# Altium footprint library FQFP (0.4mm Pitch, Square) - Corner Index.PcbLib: 27 footprints (part 3 of 3)
Each footprint in its own frame and in the unit in brackets; x right, y up, seen from the top. Pads: shape width x height; smd on the part's side, far side on the other; paste and mask are expansions set on the pad; w line width, h text height; cw(c..) or ccw(c..) is an arc to the next point about the centre after c.
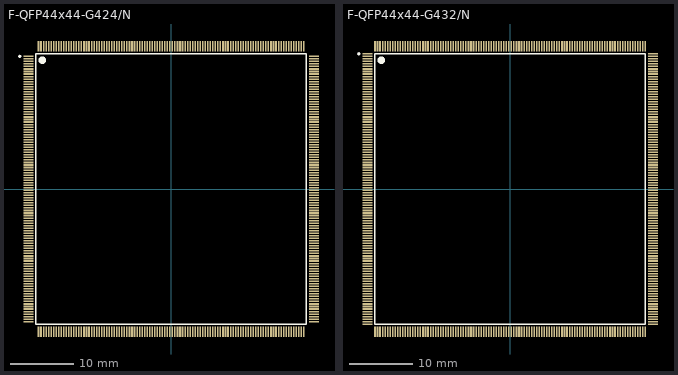
[diagram p2: the footprints below, top view; thin cyan lines are the x and y axes]

## F-QFP44x44-G424/N [mm] "QFP; 424 Leads; Body 44 x 44 mm; Pitch 0.4 mm"
height 4.2
pads (424):
  rect 1.6x0.25 smd: 1(-22.6,21) 2(-22.6,20.6) 3(-22.6,20.2) 4(-22.6,19.8) 5(-22.6,19.4) 6(-22.6,19) 7(-22.6,18.6) 8(-22.6,18.2) 9(-22.6,17.8) 10(-22.6,17.4) 11(-22.6,17) 12(-22.6,16.6) 13(-22.6,16.2) 14(-22.6,15.8) 15(-22.6,15.4) 16(-22.6,15) 17(-22.6,14.6) 18(-22.6,14.2) 19(-22.6,13.8) 20(-22.6,13.4) 21(-22.6,13) 22(-22.6,12.6) 23(-22.6,12.2) 24(-22.6,11.8) 25(-22.6,11.4) 26(-22.6,11) 27(-22.6,10.6) 28(-22.6,10.2) 29(-22.6,9.8) 30(-22.6,9.4) 31(-22.6,9) 32(-22.6,8.6) 33(-22.6,8.2) 34(-22.6,7.8) 35(-22.6,7.4) 36(-22.6,7) 37(-22.6,6.6) 38(-22.6,6.2) 39(-22.6,5.8) 40(-22.6,5.4) 41(-22.6,5) 42(-22.6,4.6) 43(-22.6,4.2) 44(-22.6,3.8) 45(-22.6,3.4) 46(-22.6,3) 47(-22.6,2.6) 48(-22.6,2.2) 49(-22.6,1.8) 50(-22.6,1.4) 51(-22.6,1) 52(-22.6,0.6) 53(-22.6,0.2) 54(-22.6,-0.2) 55(-22.6,-0.6) 56(-22.6,-1) 57(-22.6,-1.4) 58(-22.6,-1.8) 59(-22.6,-2.2) 60(-22.6,-2.6) 61(-22.6,-3) 62(-22.6,-3.4) 63(-22.6,-3.8) 64(-22.6,-4.2) 65(-22.6,-4.6) 66(-22.6,-5) 67(-22.6,-5.4) 68(-22.6,-5.8) 69(-22.6,-6.2) 70(-22.6,-6.6) 71(-22.6,-7) 72(-22.6,-7.4) 73(-22.6,-7.8) 74(-22.6,-8.2) 75(-22.6,-8.6) 76(-22.6,-9) 77(-22.6,-9.4) 78(-22.6,-9.8) 79(-22.6,-10.2) 80(-22.6,-10.6) 81(-22.6,-11) 82(-22.6,-11.4) 83(-22.6,-11.8) 84(-22.6,-12.2) 85(-22.6,-12.6) 86(-22.6,-13) 87(-22.6,-13.4) 88(-22.6,-13.8) 89(-22.6,-14.2) 90(-22.6,-14.6) 91(-22.6,-15) 92(-22.6,-15.4) 93(-22.6,-15.8) 94(-22.6,-16.2) 95(-22.6,-16.6) 96(-22.6,-17) 97(-22.6,-17.4) 98(-22.6,-17.8) 99(-22.6,-18.2) 100(-22.6,-18.6) 101(-22.6,-19) 102(-22.6,-19.4) 103(-22.6,-19.8) 104(-22.6,-20.2) 105(-22.6,-20.6) 106(-22.6,-21) 213(22.6,-21) 214(22.6,-20.6) 215(22.6,-20.2) 216(22.6,-19.8) 217(22.6,-19.4) 218(22.6,-19) 219(22.6,-18.6) 220(22.6,-18.2) 221(22.6,-17.8) 222(22.6,-17.4) 223(22.6,-17) 224(22.6,-16.6) 225(22.6,-16.2) 226(22.6,-15.8) 227(22.6,-15.4) 228(22.6,-15) 229(22.6,-14.6) 230(22.6,-14.2) 231(22.6,-13.8) 232(22.6,-13.4) 233(22.6,-13) 234(22.6,-12.6) 235(22.6,-12.2) 236(22.6,-11.8) 237(22.6,-11.4) 238(22.6,-11) 239(22.6,-10.6) 240(22.6,-10.2) 241(22.6,-9.8) 242(22.6,-9.4) 243(22.6,-9) 244(22.6,-8.6) 245(22.6,-8.2) 246(22.6,-7.8) 247(22.6,-7.4) 248(22.6,-7) 249(22.6,-6.6) 250(22.6,-6.2) 251(22.6,-5.8) 252(22.6,-5.4) 253(22.6,-5) 254(22.6,-4.6) 255(22.6,-4.2) 256(22.6,-3.8) 257(22.6,-3.4) 258(22.6,-3) 259(22.6,-2.6) 260(22.6,-2.2) 261(22.6,-1.8) 262(22.6,-1.4) 263(22.6,-1) 264(22.6,-0.6) 265(22.6,-0.2) 266(22.6,0.2) 267(22.6,0.6) 268(22.6,1) 269(22.6,1.4) 270(22.6,1.8) 271(22.6,2.2) 272(22.6,2.6) 273(22.6,3) 274(22.6,3.4) 275(22.6,3.8) 276(22.6,4.2) 277(22.6,4.6) 278(22.6,5) 279(22.6,5.4) 280(22.6,5.8) 281(22.6,6.2) 282(22.6,6.6) 283(22.6,7) 284(22.6,7.4) 285(22.6,7.8) 286(22.6,8.2) 287(22.6,8.6) 288(22.6,9) 289(22.6,9.4) 290(22.6,9.8) 291(22.6,10.2) 292(22.6,10.6) 293(22.6,11) 294(22.6,11.4) 295(22.6,11.8) 296(22.6,12.2) 297(22.6,12.6) 298(22.6,13) 299(22.6,13.4) 300(22.6,13.8) 301(22.6,14.2) 302(22.6,14.6) 303(22.6,15) 304(22.6,15.4) 305(22.6,15.8) 306(22.6,16.2) 307(22.6,16.6) 308(22.6,17) 309(22.6,17.4) 310(22.6,17.8) 311(22.6,18.2) 312(22.6,18.6) 313(22.6,19) 314(22.6,19.4) 315(22.6,19.8) 316(22.6,20.2) 317(22.6,20.6) 318(22.6,21)
  rect 0.25x1.6 smd: 107(-21,-22.6) 108(-20.6,-22.6) 109(-20.2,-22.6) 110(-19.8,-22.6) 111(-19.4,-22.6) 112(-19,-22.6) 113(-18.6,-22.6) 114(-18.2,-22.6) 115(-17.8,-22.6) 116(-17.4,-22.6) 117(-17,-22.6) 118(-16.6,-22.6) 119(-16.2,-22.6) 120(-15.8,-22.6) 121(-15.4,-22.6) 122(-15,-22.6) 123(-14.6,-22.6) 124(-14.2,-22.6) 125(-13.8,-22.6) 126(-13.4,-22.6) 127(-13,-22.6) 128(-12.6,-22.6) 129(-12.2,-22.6) 130(-11.8,-22.6) 131(-11.4,-22.6) 132(-11,-22.6) 133(-10.6,-22.6) 134(-10.2,-22.6) 135(-9.8,-22.6) 136(-9.4,-22.6) 137(-9,-22.6) 138(-8.6,-22.6) 139(-8.2,-22.6) 140(-7.8,-22.6) 141(-7.4,-22.6) 142(-7,-22.6) 143(-6.6,-22.6) 144(-6.2,-22.6) 145(-5.8,-22.6) 146(-5.4,-22.6) 147(-5,-22.6) 148(-4.6,-22.6) 149(-4.2,-22.6) 150(-3.8,-22.6) 151(-3.4,-22.6) 152(-3,-22.6) 153(-2.6,-22.6) 154(-2.2,-22.6) 155(-1.8,-22.6) 156(-1.4,-22.6) 157(-1,-22.6) 158(-0.6,-22.6) 159(-0.2,-22.6) 160(0.2,-22.6) 161(0.6,-22.6) 162(1,-22.6) 163(1.4,-22.6) 164(1.8,-22.6) 165(2.2,-22.6) 166(2.6,-22.6) 167(3,-22.6) 168(3.4,-22.6) 169(3.8,-22.6) 170(4.2,-22.6) 171(4.6,-22.6) 172(5,-22.6) 173(5.4,-22.6) 174(5.8,-22.6) 175(6.2,-22.6) 176(6.6,-22.6) 177(7,-22.6) 178(7.4,-22.6) 179(7.8,-22.6) 180(8.2,-22.6) 181(8.6,-22.6) 182(9,-22.6) 183(9.4,-22.6) 184(9.8,-22.6) 185(10.2,-22.6) 186(10.6,-22.6) 187(11,-22.6) 188(11.4,-22.6) 189(11.8,-22.6) 190(12.2,-22.6) 191(12.6,-22.6) 192(13,-22.6) 193(13.4,-22.6) 194(13.8,-22.6) 195(14.2,-22.6) 196(14.6,-22.6) 197(15,-22.6) 198(15.4,-22.6) 199(15.8,-22.6) 200(16.2,-22.6) 201(16.6,-22.6) 202(17,-22.6) 203(17.4,-22.6) 204(17.8,-22.6) 205(18.2,-22.6) 206(18.6,-22.6) 207(19,-22.6) 208(19.4,-22.6) 209(19.8,-22.6) 210(20.2,-22.6) 211(20.6,-22.6) 212(21,-22.6) 319(21,22.6) 320(20.6,22.6) 321(20.2,22.6) 322(19.8,22.6) 323(19.4,22.6) 324(19,22.6) 325(18.6,22.6) 326(18.2,22.6) 327(17.8,22.6) 328(17.4,22.6) 329(17,22.6) 330(16.6,22.6) 331(16.2,22.6) 332(15.8,22.6) 333(15.4,22.6) 334(15,22.6) 335(14.6,22.6) 336(14.2,22.6) 337(13.8,22.6) 338(13.4,22.6) 339(13,22.6) 340(12.6,22.6) 341(12.2,22.6) 342(11.8,22.6) 343(11.4,22.6) 344(11,22.6) 345(10.6,22.6) 346(10.2,22.6) 347(9.8,22.6) 348(9.4,22.6) 349(9,22.6) 350(8.6,22.6) 351(8.2,22.6) 352(7.8,22.6) 353(7.4,22.6) 354(7,22.6) 355(6.6,22.6) 356(6.2,22.6) 357(5.8,22.6) 358(5.4,22.6) 359(5,22.6) 360(4.6,22.6) 361(4.2,22.6) 362(3.8,22.6) 363(3.4,22.6) 364(3,22.6) 365(2.6,22.6) 366(2.2,22.6) 367(1.8,22.6) 368(1.4,22.6) 369(1,22.6) 370(0.6,22.6) 371(0.2,22.6) 372(-0.2,22.6) 373(-0.6,22.6) 374(-1,22.6) 375(-1.4,22.6) 376(-1.8,22.6) 377(-2.2,22.6) 378(-2.6,22.6) 379(-3,22.6) 380(-3.4,22.6) 381(-3.8,22.6) 382(-4.2,22.6) 383(-4.6,22.6) 384(-5,22.6) 385(-5.4,22.6) 386(-5.8,22.6) 387(-6.2,22.6) 388(-6.6,22.6) 389(-7,22.6) 390(-7.4,22.6) 391(-7.8,22.6) 392(-8.2,22.6) 393(-8.6,22.6) 394(-9,22.6) 395(-9.4,22.6) 396(-9.8,22.6) 397(-10.2,22.6) 398(-10.6,22.6) 399(-11,22.6) 400(-11.4,22.6) 401(-11.8,22.6) 402(-12.2,22.6) 403(-12.6,22.6) 404(-13,22.6) 405(-13.4,22.6) 406(-13.8,22.6) 407(-14.2,22.6) 408(-14.6,22.6) 409(-15,22.6) 410(-15.4,22.6) 411(-15.8,22.6) 412(-16.2,22.6) 413(-16.6,22.6) 414(-17,22.6) 415(-17.4,22.6) 416(-17.8,22.6) 417(-18.2,22.6) 418(-18.6,22.6) 419(-19,22.6) 420(-19.4,22.6) 421(-19.8,22.6) 422(-20.2,22.6) 423(-20.6,22.6) 424(-21,22.6)
Top Overlay:
  circle w0.25: c-23.96,21 r0.125
  circle w0.6: c-20.4,20.4 r0.3
  lines w0.2: -21.4,-21.4 -21.4,21.4 21.4,21.4 21.4,-21.4 -21.4,-21.4

## F-QFP44x44-G432/N [mm] "QFP; 432 Leads; Body 44 x 44 mm; Pitch 0.4 mm"
height 4.2
pads (432):
  rect 1.6x0.25 smd: 1(-22.6,21.4) 2(-22.6,21) 3(-22.6,20.6) 4(-22.6,20.2) 5(-22.6,19.8) 6(-22.6,19.4) 7(-22.6,19) 8(-22.6,18.6) 9(-22.6,18.2) 10(-22.6,17.8) 11(-22.6,17.4) 12(-22.6,17) 13(-22.6,16.6) 14(-22.6,16.2) 15(-22.6,15.8) 16(-22.6,15.4) 17(-22.6,15) 18(-22.6,14.6) 19(-22.6,14.2) 20(-22.6,13.8) 21(-22.6,13.4) 22(-22.6,13) 23(-22.6,12.6) 24(-22.6,12.2) 25(-22.6,11.8) 26(-22.6,11.4) 27(-22.6,11) 28(-22.6,10.6) 29(-22.6,10.2) 30(-22.6,9.8) 31(-22.6,9.4) 32(-22.6,9) 33(-22.6,8.6) 34(-22.6,8.2) 35(-22.6,7.8) 36(-22.6,7.4) 37(-22.6,7) 38(-22.6,6.6) 39(-22.6,6.2) 40(-22.6,5.8) 41(-22.6,5.4) 42(-22.6,5) 43(-22.6,4.6) 44(-22.6,4.2) 45(-22.6,3.8) 46(-22.6,3.4) 47(-22.6,3) 48(-22.6,2.6) 49(-22.6,2.2) 50(-22.6,1.8) 51(-22.6,1.4) 52(-22.6,1) 53(-22.6,0.6) 54(-22.6,0.2) 55(-22.6,-0.2) 56(-22.6,-0.6) 57(-22.6,-1) 58(-22.6,-1.4) 59(-22.6,-1.8) 60(-22.6,-2.2) 61(-22.6,-2.6) 62(-22.6,-3) 63(-22.6,-3.4) 64(-22.6,-3.8) 65(-22.6,-4.2) 66(-22.6,-4.6) 67(-22.6,-5) 68(-22.6,-5.4) 69(-22.6,-5.8) 70(-22.6,-6.2) 71(-22.6,-6.6) 72(-22.6,-7) 73(-22.6,-7.4) 74(-22.6,-7.8) 75(-22.6,-8.2) 76(-22.6,-8.6) 77(-22.6,-9) 78(-22.6,-9.4) 79(-22.6,-9.8) 80(-22.6,-10.2) 81(-22.6,-10.6) 82(-22.6,-11) 83(-22.6,-11.4) 84(-22.6,-11.8) 85(-22.6,-12.2) 86(-22.6,-12.6) 87(-22.6,-13) 88(-22.6,-13.4) 89(-22.6,-13.8) 90(-22.6,-14.2) 91(-22.6,-14.6) 92(-22.6,-15) 93(-22.6,-15.4) 94(-22.6,-15.8) 95(-22.6,-16.2) 96(-22.6,-16.6) 97(-22.6,-17) 98(-22.6,-17.4) 99(-22.6,-17.8) 100(-22.6,-18.2) 101(-22.6,-18.6) 102(-22.6,-19) 103(-22.6,-19.4) 104(-22.6,-19.8) 105(-22.6,-20.2) 106(-22.6,-20.6) 107(-22.6,-21) 108(-22.6,-21.4) 217(22.6,-21.4) 218(22.6,-21) 219(22.6,-20.6) 220(22.6,-20.2) 221(22.6,-19.8) 222(22.6,-19.4) 223(22.6,-19) 224(22.6,-18.6) 225(22.6,-18.2) 226(22.6,-17.8) 227(22.6,-17.4) 228(22.6,-17) 229(22.6,-16.6) 230(22.6,-16.2) 231(22.6,-15.8) 232(22.6,-15.4) 233(22.6,-15) 234(22.6,-14.6) 235(22.6,-14.2) 236(22.6,-13.8) 237(22.6,-13.4) 238(22.6,-13) 239(22.6,-12.6) 240(22.6,-12.2) 241(22.6,-11.8) 242(22.6,-11.4) 243(22.6,-11) 244(22.6,-10.6) 245(22.6,-10.2) 246(22.6,-9.8) 247(22.6,-9.4) 248(22.6,-9) 249(22.6,-8.6) 250(22.6,-8.2) 251(22.6,-7.8) 252(22.6,-7.4) 253(22.6,-7) 254(22.6,-6.6) 255(22.6,-6.2) 256(22.6,-5.8) 257(22.6,-5.4) 258(22.6,-5) 259(22.6,-4.6) 260(22.6,-4.2) 261(22.6,-3.8) 262(22.6,-3.4) 263(22.6,-3) 264(22.6,-2.6) 265(22.6,-2.2) 266(22.6,-1.8) 267(22.6,-1.4) 268(22.6,-1) 269(22.6,-0.6) 270(22.6,-0.2) 271(22.6,0.2) 272(22.6,0.6) 273(22.6,1) 274(22.6,1.4) 275(22.6,1.8) 276(22.6,2.2) 277(22.6,2.6) 278(22.6,3) 279(22.6,3.4) 280(22.6,3.8) 281(22.6,4.2) 282(22.6,4.6) 283(22.6,5) 284(22.6,5.4) 285(22.6,5.8) 286(22.6,6.2) 287(22.6,6.6) 288(22.6,7) 289(22.6,7.4) 290(22.6,7.8) 291(22.6,8.2) 292(22.6,8.6) 293(22.6,9) 294(22.6,9.4) 295(22.6,9.8) 296(22.6,10.2) 297(22.6,10.6) 298(22.6,11) 299(22.6,11.4) 300(22.6,11.8) 301(22.6,12.2) 302(22.6,12.6) 303(22.6,13) 304(22.6,13.4) 305(22.6,13.8) 306(22.6,14.2) 307(22.6,14.6) 308(22.6,15) 309(22.6,15.4) 310(22.6,15.8) 311(22.6,16.2) 312(22.6,16.6) 313(22.6,17) 314(22.6,17.4) 315(22.6,17.8) 316(22.6,18.2) 317(22.6,18.6) 318(22.6,19) 319(22.6,19.4) 320(22.6,19.8) 321(22.6,20.2) 322(22.6,20.6) 323(22.6,21) 324(22.6,21.4)
  rect 0.25x1.6 smd: 109(-21.4,-22.6) 110(-21,-22.6) 111(-20.6,-22.6) 112(-20.2,-22.6) 113(-19.8,-22.6) 114(-19.4,-22.6) 115(-19,-22.6) 116(-18.6,-22.6) 117(-18.2,-22.6) 118(-17.8,-22.6) 119(-17.4,-22.6) 120(-17,-22.6) 121(-16.6,-22.6) 122(-16.2,-22.6) 123(-15.8,-22.6) 124(-15.4,-22.6) 125(-15,-22.6) 126(-14.6,-22.6) 127(-14.2,-22.6) 128(-13.8,-22.6) 129(-13.4,-22.6) 130(-13,-22.6) 131(-12.6,-22.6) 132(-12.2,-22.6) 133(-11.8,-22.6) 134(-11.4,-22.6) 135(-11,-22.6) 136(-10.6,-22.6) 137(-10.2,-22.6) 138(-9.8,-22.6) 139(-9.4,-22.6) 140(-9,-22.6) 141(-8.6,-22.6) 142(-8.2,-22.6) 143(-7.8,-22.6) 144(-7.4,-22.6) 145(-7,-22.6) 146(-6.6,-22.6) 147(-6.2,-22.6) 148(-5.8,-22.6) 149(-5.4,-22.6) 150(-5,-22.6) 151(-4.6,-22.6) 152(-4.2,-22.6) 153(-3.8,-22.6) 154(-3.4,-22.6) 155(-3,-22.6) 156(-2.6,-22.6) 157(-2.2,-22.6) 158(-1.8,-22.6) 159(-1.4,-22.6) 160(-1,-22.6) 161(-0.6,-22.6) 162(-0.2,-22.6) 163(0.2,-22.6) 164(0.6,-22.6) 165(1,-22.6) 166(1.4,-22.6) 167(1.8,-22.6) 168(2.2,-22.6) 169(2.6,-22.6) 170(3,-22.6) 171(3.4,-22.6) 172(3.8,-22.6) 173(4.2,-22.6) 174(4.6,-22.6) 175(5,-22.6) 176(5.4,-22.6) 177(5.8,-22.6) 178(6.2,-22.6) 179(6.6,-22.6) 180(7,-22.6) 181(7.4,-22.6) 182(7.8,-22.6) 183(8.2,-22.6) 184(8.6,-22.6) 185(9,-22.6) 186(9.4,-22.6) 187(9.8,-22.6) 188(10.2,-22.6) 189(10.6,-22.6) 190(11,-22.6) 191(11.4,-22.6) 192(11.8,-22.6) 193(12.2,-22.6) 194(12.6,-22.6) 195(13,-22.6) 196(13.4,-22.6) 197(13.8,-22.6) 198(14.2,-22.6) 199(14.6,-22.6) 200(15,-22.6) 201(15.4,-22.6) 202(15.8,-22.6) 203(16.2,-22.6) 204(16.6,-22.6) 205(17,-22.6) 206(17.4,-22.6) 207(17.8,-22.6) 208(18.2,-22.6) 209(18.6,-22.6) 210(19,-22.6) 211(19.4,-22.6) 212(19.8,-22.6) 213(20.2,-22.6) 214(20.6,-22.6) 215(21,-22.6) 216(21.4,-22.6) 325(21.4,22.6) 326(21,22.6) 327(20.6,22.6) 328(20.2,22.6) 329(19.8,22.6) 330(19.4,22.6) 331(19,22.6) 332(18.6,22.6) 333(18.2,22.6) 334(17.8,22.6) 335(17.4,22.6) 336(17,22.6) 337(16.6,22.6) 338(16.2,22.6) 339(15.8,22.6) 340(15.4,22.6) 341(15,22.6) 342(14.6,22.6) 343(14.2,22.6) 344(13.8,22.6) 345(13.4,22.6) 346(13,22.6) 347(12.6,22.6) 348(12.2,22.6) 349(11.8,22.6) 350(11.4,22.6) 351(11,22.6) 352(10.6,22.6) 353(10.2,22.6) 354(9.8,22.6) 355(9.4,22.6) 356(9,22.6) 357(8.6,22.6) 358(8.2,22.6) 359(7.8,22.6) 360(7.4,22.6) 361(7,22.6) 362(6.6,22.6) 363(6.2,22.6) 364(5.8,22.6) 365(5.4,22.6) 366(5,22.6) 367(4.6,22.6) 368(4.2,22.6) 369(3.8,22.6) 370(3.4,22.6) 371(3,22.6) 372(2.6,22.6) 373(2.2,22.6) 374(1.8,22.6) 375(1.4,22.6) 376(1,22.6) 377(0.6,22.6) 378(0.2,22.6) 379(-0.2,22.6) 380(-0.6,22.6) 381(-1,22.6) 382(-1.4,22.6) 383(-1.8,22.6) 384(-2.2,22.6) 385(-2.6,22.6) 386(-3,22.6) 387(-3.4,22.6) 388(-3.8,22.6) 389(-4.2,22.6) 390(-4.6,22.6) 391(-5,22.6) 392(-5.4,22.6) 393(-5.8,22.6) 394(-6.2,22.6) 395(-6.6,22.6) 396(-7,22.6) 397(-7.4,22.6) 398(-7.8,22.6) 399(-8.2,22.6) 400(-8.6,22.6) 401(-9,22.6) 402(-9.4,22.6) 403(-9.8,22.6) 404(-10.2,22.6) 405(-10.6,22.6) 406(-11,22.6) 407(-11.4,22.6) 408(-11.8,22.6) 409(-12.2,22.6) 410(-12.6,22.6) 411(-13,22.6) 412(-13.4,22.6) 413(-13.8,22.6) 414(-14.2,22.6) 415(-14.6,22.6) 416(-15,22.6) 417(-15.4,22.6) 418(-15.8,22.6) 419(-16.2,22.6) 420(-16.6,22.6) 421(-17,22.6) 422(-17.4,22.6) 423(-17.8,22.6) 424(-18.2,22.6) 425(-18.6,22.6) 426(-19,22.6) 427(-19.4,22.6) 428(-19.8,22.6) 429(-20.2,22.6) 430(-20.6,22.6) 431(-21,22.6) 432(-21.4,22.6)
Top Overlay:
  circle w0.25: c-23.96,21.4 r0.125
  circle w0.6: c-20.4,20.4 r0.3
  lines w0.2: -21.4,-21.4 -21.4,21.4 21.4,21.4 21.4,-21.4 -21.4,-21.4